# Altium schematic symbol library 5V稳压.SchLib: 1 symbol
Pins are listed as number, name and electrical type; pins without a type are passive.

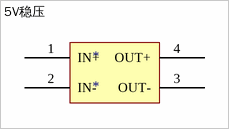
[diagram p0: symbol 5V稳压]

## 5V稳压
designator *
footprint DIP16
pins: 1 IN+, 2 IN-, 3 OUT-, 4 OUT+